# Altium footprint library PcbLib1.PcbLib: 10 footprints
Each footprint in its own frame and in the unit in brackets; x right, y up, seen from the top. Pads: shape width x height; smd on the part's side, far side on the other; paste and mask are expansions set on the pad; w line width, h text height; cw(c..) or ccw(c..) is an arc to the next point about the centre after c.
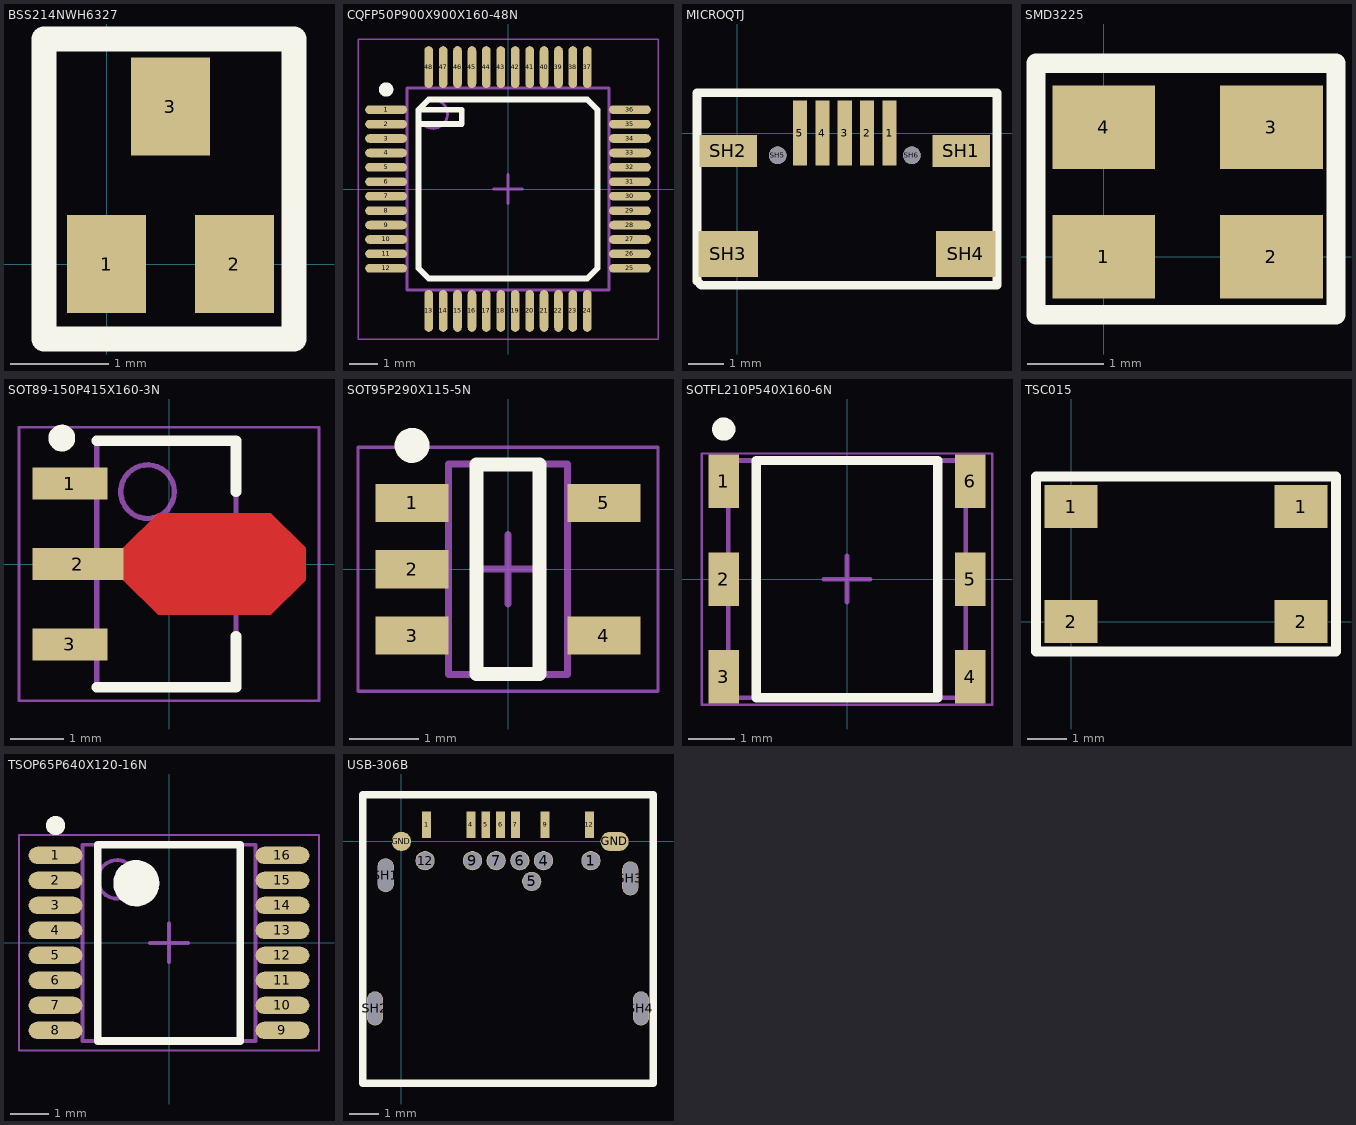
[diagram p0: the footprints below, top view; thin cyan lines are the x and y axes]

## BSS214NWH6327 [mm]
pads (3):
  rect 0.8x1 smd: 1(0,0) 2(1.3,0) 3(0.65,1.6)
Top Overlay:
  lines w0.254: -0.635,-0.762 -0.635,2.286 0.381,2.286 1.905,2.286 1.905,-0.762 -0.635,-0.762

## CQFP50P900X900X160-48N [mm] "CQFP, 48-Leads, Body 9.00x9.00mm, Pitch 0.50mm, IPC Medium Density"
height 1.6
pads (48):
  oval 1.45x0.3 smd: 1(-4.225,2.75) 2(-4.225,2.25) 3(-4.225,1.75) 4(-4.225,1.25) 5(-4.225,0.75) 6(-4.225,0.25) 7(-4.225,-0.25) 8(-4.225,-0.75) 9(-4.225,-1.25) 10(-4.225,-1.75) 11(-4.225,-2.25) 12(-4.225,-2.75) 25(4.225,-2.75) 26(4.225,-2.25) 27(4.225,-1.75) 28(4.225,-1.25) 29(4.225,-0.75) 30(4.225,-0.25) 31(4.225,0.25) 32(4.225,0.75) 33(4.225,1.25) 34(4.225,1.75) 35(4.225,2.25) 36(4.225,2.75)
  oval 0.3x1.45 smd: 13(-2.75,-4.225) 14(-2.25,-4.225) 15(-1.75,-4.225) 16(-1.25,-4.225) 17(-0.75,-4.225) 18(-0.25,-4.225) 19(0.25,-4.225) 20(0.75,-4.225) 21(1.25,-4.225) 22(1.75,-4.225) 23(2.25,-4.225) 24(2.75,-4.225) 37(2.75,4.225) 38(2.25,4.225) 39(1.75,4.225) 40(1.25,4.225) 41(0.75,4.225) 42(0.25,4.225) 43(-0.25,4.225) 44(-0.75,4.225) 45(-1.25,4.225) 46(-1.75,4.225) 47(-2.25,4.225) 48(-2.75,4.225)
Top Overlay:
  circle w0.25: c-4.225,3.45 r0.125
  lines w0.2: -3.1,2.25 -1.6,2.25 -1.6,2.75 -3.1,2.75 ; -3.1,2.75 -3.1,-2.75 -2.75,-3.1 2.75,-3.1 3.1,-2.75 3.1,2.75 2.75,3.1 -2.75,3.1 -3.1,2.75
Mechanical 13:
  circle w0.1: c-2.6,2.6 r0.5
  lines w0.1: -3.5,-3.5 -3.5,3.5 3.5,3.5 3.5,-3.5 -3.5,-3.5
Mechanical 15:
  lines w0.05: -5.2,-5.2 -5.2,5.2 5.2,5.2 5.2,-5.2 -5.2,-5.2
  lines w0.1: -0.5,0 0.5,0 ; 0,-0.5 0,0.5
3D body "CQFP50P900X900X160-48N.step": height 1.55, standoff 0, extent -4.6,-4.6 4.6,4.6

## MICROQTJ [mm] "Micro USB 2.0 Connector"
pads (11):
  rect 0.4x1.85 smd: 1(4.318,0) 2(3.683,0) 3(3.048,0) 4(2.413,0) 5(1.778,0)
  rect 1.625x0.9 smd: SH1(6.35,-0.508) SH2(-0.254,-0.508)
  rect 1.69x1.3 smd: SH3(-0.254,-3.429) SH4(6.477,-3.429)
  round 0.5 hole 0.5: SH5(1.143,-0.635) SH6(4.953,-0.635)
Top Overlay:
  lines w0.254: -1.143,-4.191 -1.143,1.143 7.366,1.143 7.366,-4.318 -1.016,-4.318 -1.143,-4.191
3D body "10118192-0002LF--3DModel-STEP-533217.STEP": height 2.79, standoff 0.02, extent -0.908,-4.211 7.004,0.889

## SMD3225 [mm] "32 MHz SMD Crystal Resonator"
pads (4):
  rect 1.35x1.1 smd: 1(0,0) 2(2.2,0) 3(2.2,1.7) 4(0,1.7)
Top Overlay:
  lines w0.254: -0.889,-0.762 -0.889,2.54 2.667,2.54 3.048,2.54 3.048,2.491 3.048,-0.762 -0.889,-0.762
3D body "User Library-User Library-Siward_SX3225.step": height 0.81, standoff 0, extent -0.457,-0.361 2.743,2.139

## SOT89-150P415X160-3N [mm] "SOT89, 3-Leads, Body 4.50x2.45mm, Pitch 1.50mm, Lead Span 4.2mm, IPC Medium Density"
height 1.6
pads (3):
  rect 1.4x0.6 smd: 1(-1.85,1.5) 3(-1.85,-1.5)
  rect 1.7x0.6 smd: 2(-1.7,0)
Top Layer:
  region: -0.85,0.3 -0.2,0.95 1.9,0.95 2.55,0.3 2.55,-0.3 1.9,-0.95 -0.2,-0.95 -0.85,-0.3
Top Overlay:
  circle w0.25: c-2,2.35 r0.125
  lines w0.2: -1.35,-2.3 1.25,-2.3 1.25,-1.35 ; -1.35,2.3 1.25,2.3 1.25,1.35
Mechanical 13:
  circle w0.1: c-0.4,1.35 r0.5
  lines w0.1: -1.35,-2.3 1.25,-2.3 1.25,2.3 -1.35,2.3 -1.35,-2.3
Mechanical 15:
  lines w0.05: -2.8,-2.55 2.8,-2.55 2.8,2.55 -2.8,2.55 -2.8,-2.55
  lines w0.1: -0.55,0 0.45,0 ; -0.05,-0.5 -0.05,0.5
3D body "SOT89-150P415X160-3N.step": height 1.6, standoff 0, extent -2.2,-2.297 1.99,2.297

## SOT95P290X115-5N [mm] "SOT23, 5-Leads, Body 2.92x2.90mm, Pitch 0.95mm, IPC Medium Density"
height 1.15
pads (5):
  rect 1.05x0.55 smd: 1(-1.375,0.95) 2(-1.375,0) 3(-1.375,-0.95) 4(1.375,-0.95) 5(1.375,0.95)
Top Overlay:
  circle w0.25: c-1.375,1.775 r0.125
  lines w0.2: -0.45,-1.5 -0.45,1.5 0.45,1.5 0.45,-1.5 -0.45,-1.5
Mechanical 13:
  lines w0.1: -0.85,-1.51 0.85,-1.51 0.85,1.51 -0.85,1.51 -0.85,-1.51
Mechanical 15:
  lines w0.05: -2.15,-1.75 2.15,-1.75 2.15,1.75 -2.15,1.75 -2.15,-1.75
  lines w0.1: -0.5,0 0.5,0 ; 0,-0.5 0,0.5
3D body "SOT95P290X115-5N.step": height 1.15, standoff 0, extent -1.525,-1.51 1.525,1.51

## SOTFL210P540X160-6N [mm] "SOTFL, 6-Leads, Body 5.00x5.40mm, Pitch 2.10mm, IPC Medium Density"
height 1.6
pads (6):
  rect 0.65x1.15 smd: 1(-2.65,2.1) 2(-2.65,0) 3(-2.65,-2.1) 4(2.65,-2.1) 5(2.65,0) 6(2.65,2.1)
Top Overlay:
  circle w0.25: c-2.65,3.225 r0.125
  lines w0.2: -1.95,-2.55 -1.95,2.55 1.95,2.55 1.95,-2.55 -1.95,-2.55
Mechanical 13:
  lines w0.1: -2.55,-2.55 2.55,-2.55 2.55,2.55 -2.55,2.55 -2.55,-2.55
Mechanical 15:
  lines w0.05: -3.125,-2.7 3.125,-2.7 3.125,2.7 -3.125,2.7 -3.125,-2.7
  lines w0.1: -0.5,0 0.5,0 ; 0,-0.5 0,0.5
3D body "SOTFL210P540X160-6N.step": height 1.6, standoff 0, extent -2.7,-2.6 2.7,2.6

## TSC015 [mm] "Tactile Switch"
pads (4):
  rect 1.35x1.1 smd: 1(0,2.921) 1(5.842,2.921) 2(0,0) 2(5.842,0)
Top Overlay:
  lines w0.254: -0.889,-0.762 -0.889,3.683 6.731,3.683 6.731,-0.762 -0.889,-0.762
3D body "Tact Switch 4.5mm SMT.step": height -0.4, standoff -4.6, extent -0.829,-0.853 6.671,3.647

## TSOP65P640X120-16N [mm] "TSOP, 16-Leads, Body 4.96x4.40mm, Pitch 0.65mm, IPC Medium Density"
height 1.2
pads (16):
  oval 1.4x0.45 smd: 1(-2.95,2.275) 2(-2.95,1.625) 3(-2.95,0.975) 4(-2.95,0.325) 5(-2.95,-0.325) 6(-2.95,-0.975) 7(-2.95,-1.625) 8(-2.95,-2.275) 9(2.95,-2.275) 10(2.95,-1.625) 11(2.95,-0.975) 12(2.95,-0.325) 13(2.95,0.325) 14(2.95,0.975) 15(2.95,1.625) 16(2.95,2.275)
Top Overlay:
  circle w0.25: c-2.95,3.05 r0.125
  circle w0.6: c-0.85,1.55 r0.3
  lines w0.2: -1.85,-2.55 -1.85,2.55 1.85,2.55 1.85,-2.55 -1.85,-2.55
Mechanical 13:
  circle w0.1: c-1.35,1.65 r0.5
  lines w0.1: -2.25,-2.55 -2.25,2.55 2.25,2.55 2.25,-2.55 -2.25,-2.55
Mechanical 15:
  lines w0.05: -3.9,-2.8 -3.9,2.8 3.9,2.8 3.9,-2.8 -3.9,-2.8
  lines w0.1: -0.5,0 0.5,0 ; 0,-0.5 0,0.5
3D body "TSOP65P640X120-16N.step": height 1.2, standoff 0, extent -3.2,-2.55 3.2,2.55

## USB-306B [mm] "USB-C female connector 14 pins"
pads (20):
  rect 0.3x0.9 smd: 1(0.85,0.56) 4(2.35,0.56) 5(2.85,0.56) 6(3.35,0.56) 7(3.85,0.56) 9(4.85,0.56) 12(6.35,0.56)
  round 0.65 hole 0.6: 1(6.4,-0.65) 4(4.8,-0.65) 5(4.4,-1.35) 6(4,-0.65) 7(3.2,-0.65) 9(2.4,-0.65) 12(0.8,-0.65)
  round 0.65 smd: GND(0,0)
  oval 0.95x0.65 smd: GND(7.2,0)
  oval 0.55x1.15 hole 0.5 slot 1.1 at 90 deg: SH1(-0.53,-1.143) SH2(-0.89,-5.64) SH3(7.73,-1.25) SH4(8.09,-5.64)
Top Overlay:
  lines w0.254: -1.3,-8.17 -1.3,1.58 8.5,1.58 8.5,-8.17 -1.3,-8.17